# Altium footprint library Shelestov_Switches.PcbLib: 4 footprints
Each footprint in its own frame and in the unit in brackets; x right, y up, seen from the top. Pads: shape width x height; smd on the part's side, far side on the other; paste and mask are expansions set on the pad; w line width, h text height; cw(c..) or ccw(c..) is an arc to the next point about the centre after c.
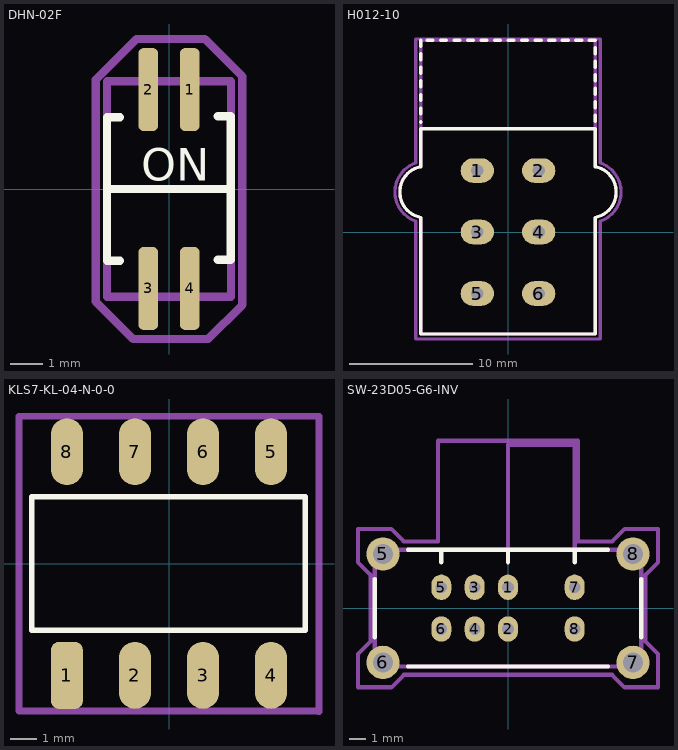
[diagram p0: the footprints below, top view; thin cyan lines are the x and y axes]

## DHN-02F [mm]
pads (4):
  rrect50% 0.6x2.54 smd: 1(0.635,3.048) 2(-0.635,3.048) 3(-0.635,-3.048) 4(0.635,-3.048)
Top Overlay:
  lines w0.254: -1.9,0 1.864,0 ; -1.5,-2.2 -1.9,-2.2 -1.9,2.2 -1.5,2.2 ; 1.493,-2.171 1.893,-2.171 1.893,2.229 1.493,2.229
  text "ON" at -0.846,0.254 h1
Top Assembly:
  lines w0.254: -1.9,-3.3 1.9,-3.3 1.9,3.3 -1.9,3.3 -1.9,-3.3
Top Courtyard:
  lines w0.254: -2.25,-3.45 -2.25,3.35 -1,4.6 1.1,4.6 2.25,3.45 2.25,-3.55 1.2,-4.6 -1.1,-4.6 -2.25,-3.45
3D body "DHN-02F.STEP": height 1.6, standoff 0, extent -1.9,-3.35 1.9,3.35

## H012-10 [mm]
height 7.9
pads (6):
  oval 2.7x2 hole 1: 1(-2.5,5) 2(2.5,5) 3(-2.5,0) 4(2.5,0) 5(-2.5,-5) 6(2.5,-5)
Top Overlay:
  lines w0.254: -7.1,1.187 -7.1,-8.3 0,-8.3 7.1,-8.3 7.1,1.187 ; -7.1,5.313 -7.1,8.4 0,8.4 7.1,8.4 7.1,5.313 ; -7.1,8.9 -7.1,9 ; -7.1,9.6 -7.1,10.1 ; -7.1,10.7 -7.1,11.2 ; -7.1,11.8 -7.1,12.3 ; -7.1,12.9 -7.1,13.4 ; -7.1,14 -7.1,14.5 ; -7.1,15.1 -7.1,15.6 ; -7.1,1.188 cw(c-6.7,3.25) -7.093,5.313 ; -6.6,15.6 -6.1,15.6 ; -5.5,15.6 -5,15.6 ; -4.4,15.6 -3.9,15.6 ; -3.3,15.6 -2.8,15.6 ; -2.2,15.6 -1.7,15.6 ; -1.1,15.6 -0.6,15.6 ; 0,15.6 0.5,15.6 ; 1.1,15.6 1.6,15.6 ; 2.2,15.6 2.7,15.6 ; 3.3,15.6 3.8,15.6 ; 4.4,15.6 4.9,15.6 ; 5.5,15.6 6,15.6 ; 6.6,15.6 7.1,15.6 ; 7.093,5.313 cw(c6.7,3.25) 7.1,1.188 ; 7.1,9 7.1,9.5 ; 7.1,10.1 7.1,10.6 ; 7.1,11.2 7.1,11.7 ; 7.1,12.3 7.1,12.8 ; 7.1,13.4 7.1,13.9 ; 7.1,14.5 7.1,15
Top Assembly:
  lines w0.254: -7.1,1.187 -7.1,-8.3 0,-8.3 7.1,-8.3 7.1,1.187 ; -7.1,5.313 -7.1,15.6 7.1,15.6 7.1,5.313 ; -7.1,1.188 cw(c-6.7,3.25) -7.093,5.313 ; 7.093,5.313 cw(c6.7,3.25) 7.1,1.188
  text ".Designator" at -13.524,9.642 h6
Top Courtyard:
  lines w0.254: -7.506,0.883 cw(c-6.7,3.25) -7.506,5.617 ; -7.5,0.883 -7.5,-8.7 0,-8.7 7.5,-8.7 7.5,0.883 ; -7.5,5.617 -7.5,15.7 7.5,15.7 7.5,5.617 ; 7.506,0.883 ccw(c6.7,3.25) 7.506,5.617
3D body "H012-10.step": height 7.9, standoff -3.1, extent -8.5,-8.25 8.5,15.75

## KLS7-KL-04-N-0-0 [mm]
pads (8):
  rrect50% 1.2x2.5 smd: 1(-3.81,-4.175)
  oval 1.2x2.5 smd: 2(-1.27,-4.175) 3(1.27,-4.175) 4(3.81,-4.175) 5(3.81,4.175) 6(1.27,4.175) 7(-1.27,4.175) 8(-3.81,4.175)
Top Overlay:
  lines w0.2: -5.12,-2.49 -5.12,2.49 ; -5.08,-2.49 5.08,-2.49 5.08,2.49 -5.08,2.49
Top Assembly:
  text ".Designator" at -6.762,-0.679 h3
Top Courtyard:
  lines w0.254: 5.599,-5.533 5.599,5.467 ; 5.6,-5.5 -5.599,-5.5 -5.6,5.5 5.599,5.5
3D body "User Library-DS1040-02-04SBWR-B.step": height 4, standoff 0, extent -5.63,-4.9 5.63,4.9

## SW-23D05-G6-INV [mm]
pads (12):
  oval 1.2x1.524 hole 0.7: 1(0,1.25) 2(0,-1.25) 3(-2,1.25) 4(-2,-1.25) 5(-4,1.25) 6(-4,-1.25) 7(4,1.25) 8(4,-1.25)
  round 2 hole 1.2: 5(-7.5,3.25) 6(-7.5,-3.25) 7(7.5,-3.25) 8(7.5,3.25)
Top Overlay:
  lines w0.254: -8,-1.75 -8,0 -8,1.75 ; -6,-3.5 0,-3.5 6,-3.5 ; -6,3.5 0,3.5 ; -4,2.75 -4,3.5 ; 0,2.75 0,3.5 ; 4,2.75 4,3.5 ; 6,3.5 0,3.5 ; 8,-1.75 8,0 8,1.75
Top Assembly:
  lines w0.254: 4,3.5 4,9.8 0,9.8 0,3.5 ; 0,3.5 8,3.5 8,-3.5 0,-3.5 -8,-3.5 -8,3.5 0,3.5
  text ".Designator" at -11.272,-1.132 h5
Top Courtyard:
  lines w0.254: -9,-4.75 -9,-2.75 -8.25,-2 -8.25,2 -9,2.75 -9,4.75 -7,4.75 -6.25,4 -4.2,4 -4.2,10.05 0,10.05 4.2,10.05 4.2,4 6.25,4 7,4.75 9,4.75 9,2.75 8.25,2 8.25,-2 9,-2.75 9,-4.75 7,-4.75 6.25,-4 -6.25,-4 -7,-4.75 -9,-4.75
3D body "SK-23D05-G6-Inv.step": height 7.8, standoff -3.7, extent -8,-3.5 8,9.8